# EAGLE library part IRS2183S (library Gate_Drivers)
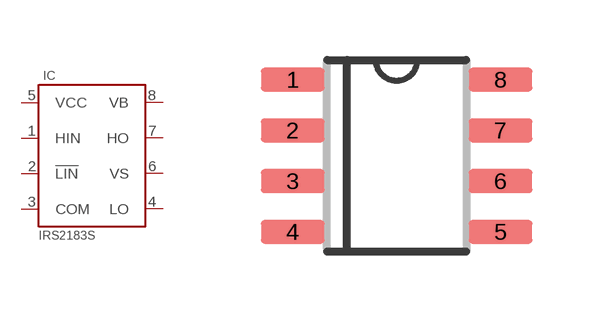
[diagram p0: symbol with the pads of SOIC-8; footprint SOIC-8]

Designator prefix IC

## IRS2183S  [SOIC-8]
1  HIN  in
2  !LIN  in
3  COM  pwr
4  LO
5  VCC  pwr
6  VS
7  HO
8  VB  pwr

## Footprint SOIC-8 (pad centres in mm)
smd 1.6 x 0.6: 1 -2.6,1.905; 2 -2.6,0.635; 3 -2.6,-0.635; 4 -2.6,-1.905; 5 2.6,-1.905; 6 2.6,-0.635; 7 2.6,0.635; 8 2.6,1.905